# EAGLE library part LFD039AUE-102A (library display)
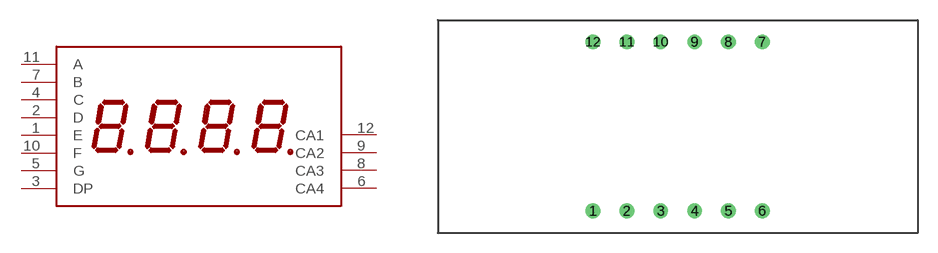
[diagram p8: symbol with the pads of LFD039AUE-102A; footprint LFD039AUE-102A]

Designator prefix DISP

## LFD039AUE-102A  [LFD039AUE-102A]
1  E
2  D
3  DP
4  C
5  G
6  CA4
7  B
8  CA3
9  CA2
10  F
11  A
12  CA1

## Footprint LFD039AUE-102A (pad centres in mm)
drill 0.6: 1 -6.35,-6.35; 2 -3.81,-6.35; 3 -1.27,-6.35; 4 1.27,-6.35; 5 3.81,-6.35; 6 6.35,-6.35; 7 6.35,6.35; 8 3.81,6.35; 9 1.27,6.35; 10 -1.27,6.35; 11 -3.81,6.35; 12 -6.35,6.35